# Altium integrated library CC2538+2592.IntLib: 1 symbol
Pins are listed as number, name and electrical type; pins without a type are passive.

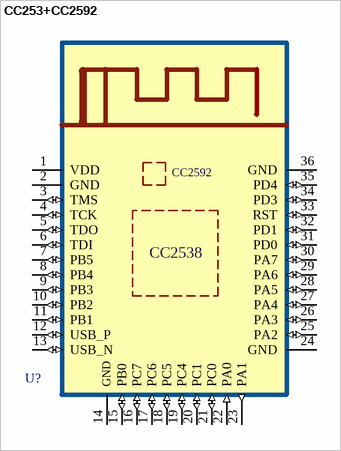
[diagram p0: symbol CC253+CC2592]

## CC253+CC2592
designator U?
WAVGAT CC2538 + CC2592 module Communication distance Support zigbee/6lowpan
footprint CC2538_V1 (WAVGAT CC2538 + CC2592 module Communication distance Support zigbee/6lowpan)
pins: 1 VDD (power), 2 GND (power), 3 TMS (io), 4 TCK (io), 5 TDO (io), 6 TDI (io), 7 PB5 (io), 8 PB4 (io), 9 PB3 (io), 10 PB2 (io), 11 PB1 (io), 12 USB_P (io), 13 USB_N (io), 14 GND (power), 15 PB0 (io), 16 PC7 (io), 17 PC6 (io), 18 PC5 (io), 19 PC4 (io), 20 PC1 (io), 21 PC0 (io), 22 PA0 (in), 23 PA1 (out), 24 GND (power), 25 PA2 (io), 26 PA3 (io), 27 PA4 (io), 28 PA5 (io), 29 PA6 (io), 30 PA7 (io), 31 PD0 (io), 32 PD1 (io), 33 RST (io), 34 PD3 (io), 35 PD4 (io), 36 GND (power)
text: CC2592; CC2538